# Altium footprint library PcbLib1.PcbLib: 6 footprints
Each footprint in its own frame and in the unit in brackets; x right, y up, seen from the top. Pads: shape width x height; smd on the part's side, far side on the other; paste and mask are expansions set on the pad; w line width, h text height; cw(c..) or ccw(c..) is an arc to the next point about the centre after c.
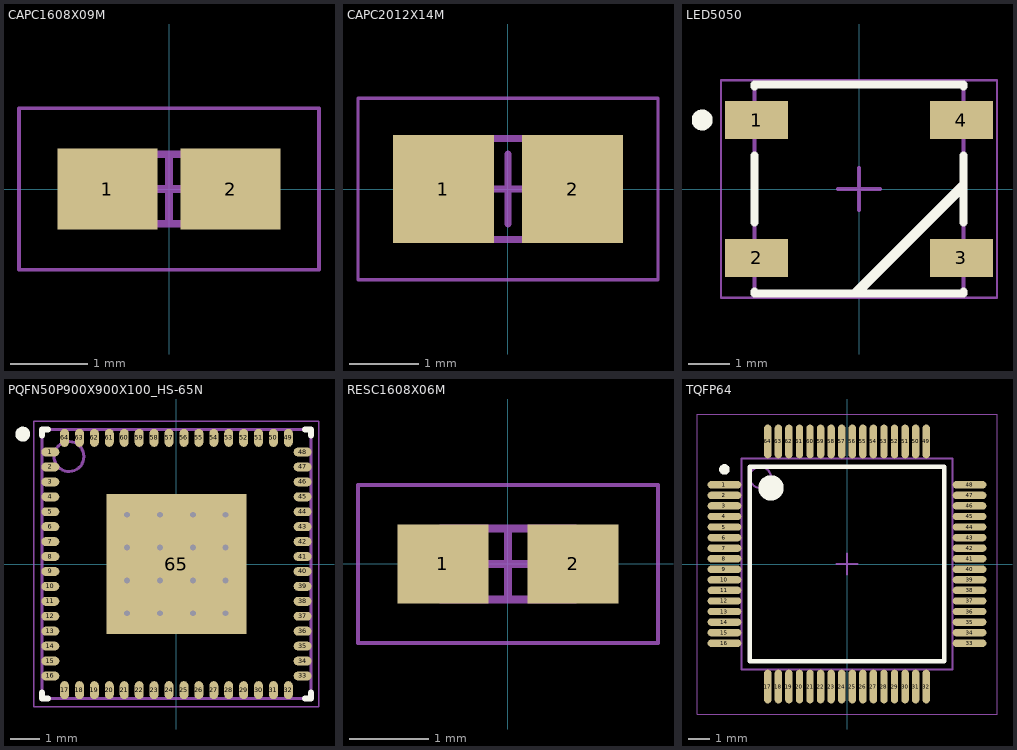
[diagram p0: the footprints below, top view; thin cyan lines are the x and y axes]

## CAPC1608X09M [mm] "Chip Capacitor, 2-Leads, Body 1.60x0.80mm, IPC Low Density"
height 0.9
pads (2):
  rect 1.3x1.05 smd: 1(-0.8,0) 2(0.8,0)
Mechanical 13:
  lines w0.1: -0.85,-0.45 -0.85,0.45 0.85,0.45 0.85,-0.45 -0.85,-0.45
Mechanical 15:
  lines w0.05: -1.95,-1.05 -1.95,1.05 1.95,1.05 1.95,-1.05 -1.95,-1.05
  lines w0.1: -0.45,0 0.45,0 ; 0,-0.45 0,0.45
3D body "CAPC1608X09M.step": height 0.9, standoff 0, extent -0.85,-0.45 0.85,0.45

## CAPC2012X14M [mm] "Chip Capacitor 0805, 2-Leads, Body 2.00x1.25mm, IPC Low Density"
height 1.45
pads (2):
  rect 1.45x1.55 smd: 1(-0.925,0) 2(0.925,0)
Mechanical 13:
  lines w0.1: -1.1,-0.725 1.1,-0.725 1.1,0.725 -1.1,0.725 -1.1,-0.725
Mechanical 15:
  lines w0.05: -2.15,-1.3 2.15,-1.3 2.15,1.3 -2.15,1.3 -2.15,-1.3
  lines w0.1: -0.5,0 0.5,0 ; 0,-0.5 0,0.5
3D body "CAPC2012X14M.step": height 1.45, standoff 0, extent -1.1,-0.725 1.1,0.725

## LED5050 [mm] "SMD, 4-Leads, Body 5x5mm"
pads (4):
  rect 1.5x0.9 smd: 1(-2.45,1.65) 2(-2.45,-1.65) 3(2.45,-1.65) 4(2.45,1.65)
Top Overlay:
  circle w0.25: c-3.75,1.65 r0.125
  lines w0.2: -2.5,-2.45 -2.5,-2.5 2.5,-2.5 2.5,-2.45 ; -2.5,-0.8 -2.5,0.8 ; -2.5,2.45 -2.5,2.5 2.5,2.5 2.5,2.45 ; 2.5,-0.8 2.5,0.8
  lines w0.254: -0.044,-2.457 2.457,0.044
Mechanical 13:
  lines w0.1: -2.5,-2.5 2.5,-2.5 2.5,2.5 -2.5,2.5 -2.5,-2.5
Mechanical 15:
  lines w0.05: -3.3,-2.6 -3.3,2.6 3.3,2.6 3.3,-2.6 -3.3,-2.6
  lines w0.1: -0.5,0 0.5,0 ; 0,-0.5 0,0.5
3D body "User Library-WS2812B.STEP": height 1.68, standoff -0.02, extent -2.667,-2.5 2.733,2.5

## PQFN50P900X900X100_HS-65N [mm] "PQFN, 64-Leads, Body 9.00x9.00mm, Pitch 0.50mm, Thermal Pad 4.70x4.70mm, IPC Medium Density"
height 1
pads (65):
  oval 0.6x0.3 smd: 1(-4.225,3.75) 2(-4.225,3.25) 3(-4.225,2.75) 4(-4.225,2.25) 5(-4.225,1.75) 6(-4.225,1.25) 7(-4.225,0.75) 8(-4.225,0.25) 9(-4.225,-0.25) 10(-4.225,-0.75) 11(-4.225,-1.25) 12(-4.225,-1.75) 13(-4.225,-2.25) 14(-4.225,-2.75) 15(-4.225,-3.25) 16(-4.225,-3.75) 33(4.225,-3.75) 34(4.225,-3.25) 35(4.225,-2.75) 36(4.225,-2.25) 37(4.225,-1.75) 38(4.225,-1.25) 39(4.225,-0.75) 40(4.225,-0.25) 41(4.225,0.25) 42(4.225,0.75) 43(4.225,1.25) 44(4.225,1.75) 45(4.225,2.25) 46(4.225,2.75) 47(4.225,3.25) 48(4.225,3.75)
  oval 0.3x0.6 smd: 17(-3.75,-4.225) 18(-3.25,-4.225) 19(-2.75,-4.225) 20(-2.25,-4.225) 21(-1.75,-4.225) 22(-1.25,-4.225) 23(-0.75,-4.225) 24(-0.25,-4.225) 25(0.25,-4.225) 26(0.75,-4.225) 27(1.25,-4.225) 28(1.75,-4.225) 29(2.25,-4.225) 30(2.75,-4.225) 31(3.25,-4.225) 32(3.75,-4.225) 49(3.75,4.225) 50(3.25,4.225) 51(2.75,4.225) 52(2.25,4.225) 53(1.75,4.225) 54(1.25,4.225) 55(0.75,4.225) 56(0.25,4.225) 57(-0.25,4.225) 58(-0.75,4.225) 59(-1.25,4.225) 60(-1.75,4.225) 61(-2.25,4.225) 62(-2.75,4.225) 63(-3.25,4.225) 64(-3.75,4.225)
  rect 4.7x4.7 smd: 65(0,0)
via -1.65,1.65 diameter 0.5 hole 0.2
via -0.55,1.65 diameter 0.5 hole 0.2
via 0.55,1.65 diameter 0.5 hole 0.2
via 1.65,1.65 diameter 0.5 hole 0.2
via -1.65,0.55 diameter 0.5 hole 0.2
via -0.55,0.55 diameter 0.5 hole 0.2
via 0.55,0.55 diameter 0.5 hole 0.2
via 1.65,0.55 diameter 0.5 hole 0.2
via -1.65,-0.55 diameter 0.5 hole 0.2
via -0.55,-0.55 diameter 0.5 hole 0.2
via 0.55,-0.55 diameter 0.5 hole 0.2
via 1.65,-0.55 diameter 0.5 hole 0.2
via -1.65,-1.65 diameter 0.5 hole 0.2
via -0.55,-1.65 diameter 0.5 hole 0.2
via 0.55,-1.65 diameter 0.5 hole 0.2
via 1.65,-1.65 diameter 0.5 hole 0.2
Top Overlay:
  circle w0.25: c-5.15,4.35 r0.125
  lines w0.2: -4.5,-4.3 -4.5,-4.5 -4.3,-4.5 ; -4.5,4.3 -4.5,4.5 -4.3,4.5 ; 4.3,-4.5 4.5,-4.5 4.5,-4.3 ; 4.3,4.5 4.5,4.5 4.5,4.3
Mechanical 13:
  circle w0.1: c-3.6,3.6 r0.5
  lines w0.1: -4.5,-4.5 -4.5,4.5 4.5,4.5 4.5,-4.5 -4.5,-4.5
Mechanical 15:
  lines w0.05: -4.775,-4.775 -4.775,4.775 4.775,4.775 4.775,-4.775 -4.775,-4.775
  lines w0.1: -0.5,0 0.5,0 ; 0,-0.5 0,0.5
3D body "PQFN50P900X900X100_HS-65N.step": height 1, standoff 0, extent -4.5,-4.5 4.5,4.5

## RESC1608X06M [mm] "Chip Resistor, 2-Leads, Body 1.60x0.80mm, IPC Low Density"
height 0.55
pads (2):
  rect 1.15x1 smd: 1(-0.825,0) 2(0.825,0)
Mechanical 13:
  lines w0.1: -0.85,-0.45 0.85,-0.45 0.85,0.45 -0.85,0.45 -0.85,-0.45
Mechanical 15:
  lines w0.05: -1.9,-1 1.9,-1 1.9,1 -1.9,1 -1.9,-1
  lines w0.1: -0.45,0 0.45,0 ; 0,-0.45 0,0.45
3D body "RESC1608X06M.step": height 0.55, standoff 0, extent -0.85,-0.45 0.85,0.45

## TQFP64 [mm] "TSQFP, 64-Leads, Body 10.00x10.00mm, Pitch 0.50mm, IPC Low Density"
height 1.2
pads (64):
  oval 1.6x0.35 smd: 1(-5.8,3.75) 2(-5.8,3.25) 3(-5.8,2.75) 4(-5.8,2.25) 5(-5.8,1.75) 6(-5.8,1.25) 7(-5.8,0.75) 8(-5.8,0.25) 9(-5.8,-0.25) 10(-5.8,-0.75) 11(-5.8,-1.25) 12(-5.8,-1.75) 13(-5.8,-2.25) 14(-5.8,-2.75) 15(-5.8,-3.25) 16(-5.8,-3.75) 33(5.8,-3.75) 34(5.8,-3.25) 35(5.8,-2.75) 36(5.8,-2.25) 37(5.8,-1.75) 38(5.8,-1.25) 39(5.8,-0.75) 40(5.8,-0.25) 41(5.8,0.25) 42(5.8,0.75) 43(5.8,1.25) 44(5.8,1.75) 45(5.8,2.25) 46(5.8,2.75) 47(5.8,3.25) 48(5.8,3.75)
  oval 0.35x1.6 smd: 17(-3.75,-5.8) 18(-3.25,-5.8) 19(-2.75,-5.8) 20(-2.25,-5.8) 21(-1.75,-5.8) 22(-1.25,-5.8) 23(-0.75,-5.8) 24(-0.25,-5.8) 25(0.25,-5.8) 26(0.75,-5.8) 27(1.25,-5.8) 28(1.75,-5.8) 29(2.25,-5.8) 30(2.75,-5.8) 31(3.25,-5.8) 32(3.75,-5.8) 49(3.75,5.8) 50(3.25,5.8) 51(2.75,5.8) 52(2.25,5.8) 53(1.75,5.8) 54(1.25,5.8) 55(0.75,5.8) 56(0.25,5.8) 57(-0.25,5.8) 58(-0.75,5.8) 59(-1.25,5.8) 60(-1.75,5.8) 61(-2.25,5.8) 62(-2.75,5.8) 63(-3.25,5.8) 64(-3.75,5.8)
Top Overlay:
  circle w0.6: c-3.6,3.6 r0.3
  circle w0.25: c-5.8,4.475 r0.125
  lines w0.2: -4.6,-4.6 4.6,-4.6 4.6,4.6 -4.6,4.6 -4.6,-4.6
Mechanical 13:
  circle w0.1: c-4.1,4.1 r0.5
  lines w0.1: -5,-5 5,-5 5,5 -5,5 -5,-5
Mechanical 15:
  lines w0.05: -7.1,-7.1 7.1,-7.1 7.1,7.1 -7.1,7.1 -7.1,-7.1
  lines w0.1: -0.5,0 0.5,0 ; 0,-0.5 0,0.5
3D body "TQFP64.step": height 1.2, standoff 0, extent -6,-6 6,6